# EAGLE library part RELAY_DPDT (library GPLIB_CONN)
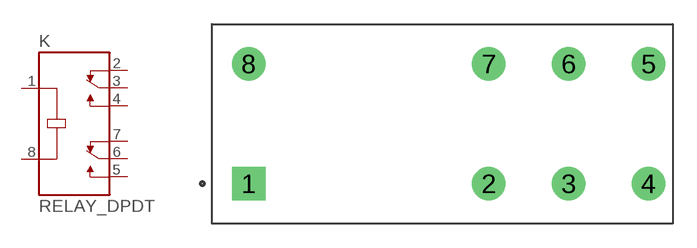
[diagram p61: symbol with the pads of RELAY_G2RL-2; footprint RELAY_G2RL-2]

Designator prefix K

## RELAY_DPDT_G2RL-24DC48  [RELAY_G2RL-2]
1  COIL1  pas
2  NC1  pas
3  COM1  pas
4  NO1  pas
5  NO2  pas
6  COM2  pas
7  NC2  pas
8  COIL2  pas

## Footprint RELAY_G2RL-2 (pad centres in mm)
drill 1.4 square: 1 -12.1,-3.75
drill 1.4: 2 2.9,-3.75; 3 7.9,-3.75; 4 12.9,-3.75; 5 12.9,3.75; 6 7.9,3.75; 7 2.9,3.75; 8 -12.1,3.75